# EAGLE library part 62100621921 (library Wuerth_Elektronik_eiCan_Pin_&_Socked_Headers_v1.3)
WR-PHD 2.00mm Dual SMT Pin Header, 6 Pins
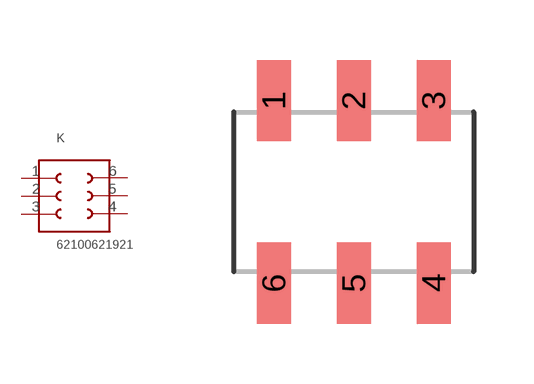
[diagram p279: symbol with the pads of 62100621921; footprint 62100621921]

Designator prefix K

## 62100621921  [62100621921]
1  1  pas
2  2  pas
3  3  pas
4  4  pas
5  5  pas
6  6  pas

## Footprint 62100621921 (pad centres in mm)
WR-PHD 2.00mm Dual SMT Pin Header, 6 Pins
smd 0.85 x 2.03: 1 -3,2.285; 2 -1,2.285; 3 1,2.285; 4 1,-2.285; 5 -1,-2.285; 6 -3,-2.285